# Altium schematic symbol library RF.SchLib: 5 symbols
Pins are listed as number, name and electrical type; pins without a type are passive.

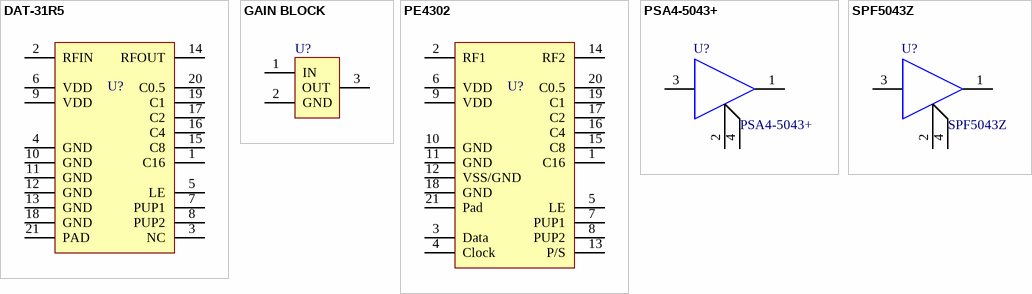
[diagram p0: symbols DAT-31R5 to SPF5043Z]

## DAT-31R5
designator U?  (value not drawn)
0兆赫 - 2400兆赫的射频/微波可变衰减器, 最大2.4 dB的插入损耗
footprint QFN20
pins: 1 C16, 2 RFIN, 3 NC, 4 GND, 5 LE, 6 VDD, 7 PUP1, 8 PUP2, 9 VDD, 10 GND, 11 GND, 12 GND, 13 GND, 14 RFOUT, 15 C8, 16 C4, 17 C2, 18 GND, 19 C1, 20 C0.5, 21 PAD

## GAIN BLOCK
designator U?
InGaP HBT GAIN BLOCK  MMIC AMPLIFIER
footprint SOT89_L (SOT89, 3-Leads, Body 4.5x2.4 mm, Pitch 1.5mm, Lead Span 4.1mm, IPC High Density)
footprint SOT89_M (SOT89, 3-Leads, Body 4.5x2.4 mm, Pitch 1.5mm, Lead Span 4.1mm, IPC Low Density)
footprint SOT89_N (SOT89, 3-Leads, Body 4.5x2.4 mm, Pitch 1.5mm, Lead Span 4.1mm, IPC Medium Density)
pins: 1 IN, 2 GND, 3 OUT

## PE4302
designator U?  (value not drawn)
50 Ω RF Digital Attenuator  6-bit, 31.5 dB, DC – 4.0 GHz
footprint QFN20
pins: 1 C16, 2 RF1, 3 Data, 4 Clock, 5 LE, 6 VDD, 7 PUP1, 8 PUP2, 9 VDD, 10 GND, 11 GND, 12 VSS/GND, 13 P/S, 14 RF2, 15 C8, 16 C4, 17 C2, 18 GND, 19 C1, 20 C0.5, 21 Pad

## PSA4-5043+
designator U?
Note: Pin 5 is not connected.; Published: 8-Jun-2000; LatestRevisionDate: 13-Apr-2006; LatestRevisionNote: IPC-7351 Footprint Added.; DatasheetVersion: 1992; PackageVersion: revA; PackageReference: SO-8; Publisher: Altium Limited; PackageDescription: 8-Pin Small Outline Integrated Circuit 1.27 mm Pitch; Code_JEDEC: MS-012-AA; Code_IPC: SOIC127P600-8; ComponentLink1Description: Manufacturer Link; ComponentLink1URL: http://www.analog.com/en/prod/0,,759_786_OP07%2C00.html; ComponentLink2Description: Datasheet; ComponentLink2URL: http://www.analog.com/UploadedFiles/Data_Sheets/39161232478959OP07_c.pdf
footprint SOT-343_N (SOT343, 4-Leads, Body 2x1.3 mm, Pitch 1.3mm, Lead Span 2.1mm, IPC Medium Density)
footprint SOT-343_L (SOT343, 4-Leads, Body 2x1.3 mm, Pitch 1.3mm, Lead Span 2.1mm, IPC High Density)
footprint SOT-343_M (SOT343, 4-Leads, Body 2x1.3 mm, Pitch 1.3mm, Lead Span 2.1mm, IPC Low Density)
pins: 1 OUT, 2 GND (power), 3 IN, 4 GND (power)

## SPF5043Z
designator U?
Note: Pin 5 is not connected.; Published: 8-Jun-2000; LatestRevisionDate: 13-Apr-2006; LatestRevisionNote: IPC-7351 Footprint Added.; DatasheetVersion: 1992; PackageVersion: revA; PackageReference: SO-8; Publisher: Altium Limited; PackageDescription: 8-Pin Small Outline Integrated Circuit 1.27 mm Pitch; Code_JEDEC: MS-012-AA; Code_IPC: SOIC127P600-8; ComponentLink1Description: Manufacturer Link; ComponentLink1URL: http://www.analog.com/en/prod/0,,759_786_OP07%2C00.html; ComponentLink2Description: Datasheet; ComponentLink2URL: http://www.analog.com/UploadedFiles/Data_Sheets/39161232478959OP07_c.pdf
footprint SOT-343_N (SOT343, 4-Leads, Body 2x1.3 mm, Pitch 1.3mm, Lead Span 2.1mm, IPC Medium Density)
footprint SOT-343_L (SOT343, 4-Leads, Body 2x1.3 mm, Pitch 1.3mm, Lead Span 2.1mm, IPC High Density)
footprint SOT-343_M (SOT343, 4-Leads, Body 2x1.3 mm, Pitch 1.3mm, Lead Span 2.1mm, IPC Low Density)
pins: 1 OUT, 2 GND (power), 3 IN, 4 GND (power)